# EAGLE library part MIDI_MABP5S (library MBHP_CORE_STM32F4v1.1.2)
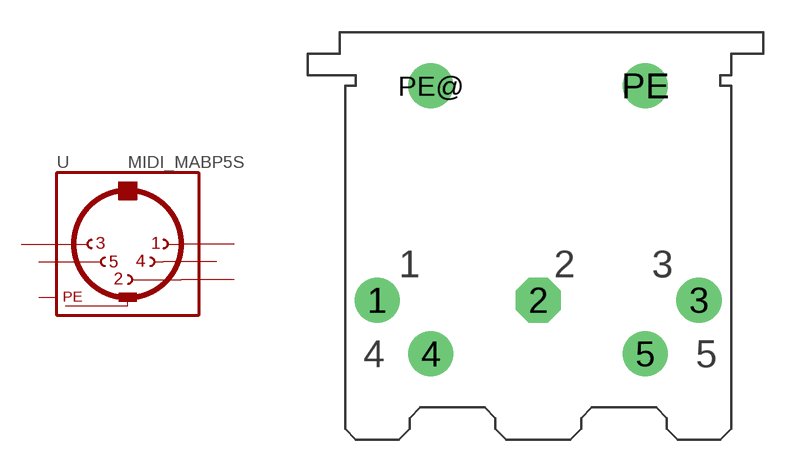
[diagram p11: symbol with the pads of MIDI_MABP5S; footprint MIDI_MABP5S]

Designator prefix -

## MIDI_MABP5S  [MIDI_MABP5S]
1  1  pas
2  2  pas
3  3  pas
4  4  pas
5  5  pas
PE  PE  pwr
PE@  PE  pwr

## Footprint MIDI_MABP5S (pad centres in mm)
drill 1.4: 1 -7.5,0; 3 7.5,0; 4 -5,-2.5; 5 5,-2.5; PE 5,10; PE@ -5,10
drill 1.4 octagon: 2 0,0